# EAGLE library part JST-20P3.0-JMCS (library gclueParts)
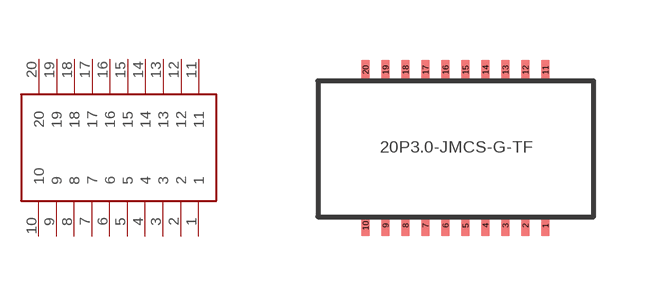
[diagram p2: symbol with the pads of JST-20P3.0-JMCS; footprint JST-20P3.0-JMCS]

Designator prefix -

## JST-20P3.0-JMCS  [JST-20P3.0-JMCS]
1  1
2  2
3  3
4  4
5  5
6  6
7  7
8  8
9  9
10  10
11  11
12  12
13  13
14  14
15  15
16  16
17  17
18  18
19  19
20  20

## Footprint JST-20P3.0-JMCS (pad centres in mm)
smd 0.2 x 0.5: 1 2.248,-1.924; 2 1.748,-1.924; 3 1.248,-1.924; 4 0.748,-1.924; 5 0.248,-1.924; 6 -0.252,-1.924; 7 -0.752,-1.924; 8 -1.252,-1.924; 9 -1.752,-1.924; 10 -2.252,-1.924; 11 2.248,1.976; 12 1.748,1.976; 13 1.248,1.976; 14 0.748,1.976; 15 0.248,1.976; 16 -0.252,1.976; 17 -0.752,1.976; 18 -1.252,1.976; 19 -1.752,1.976; 20 -2.252,1.976